# Altium schematic symbol library SCH - MCU - STM32 - ST MICROELECTRONICS STM32G0B0RETX LQFP64.SchLib: 1 symbol
Pins are listed as number, name and electrical type; pins without a type are passive.

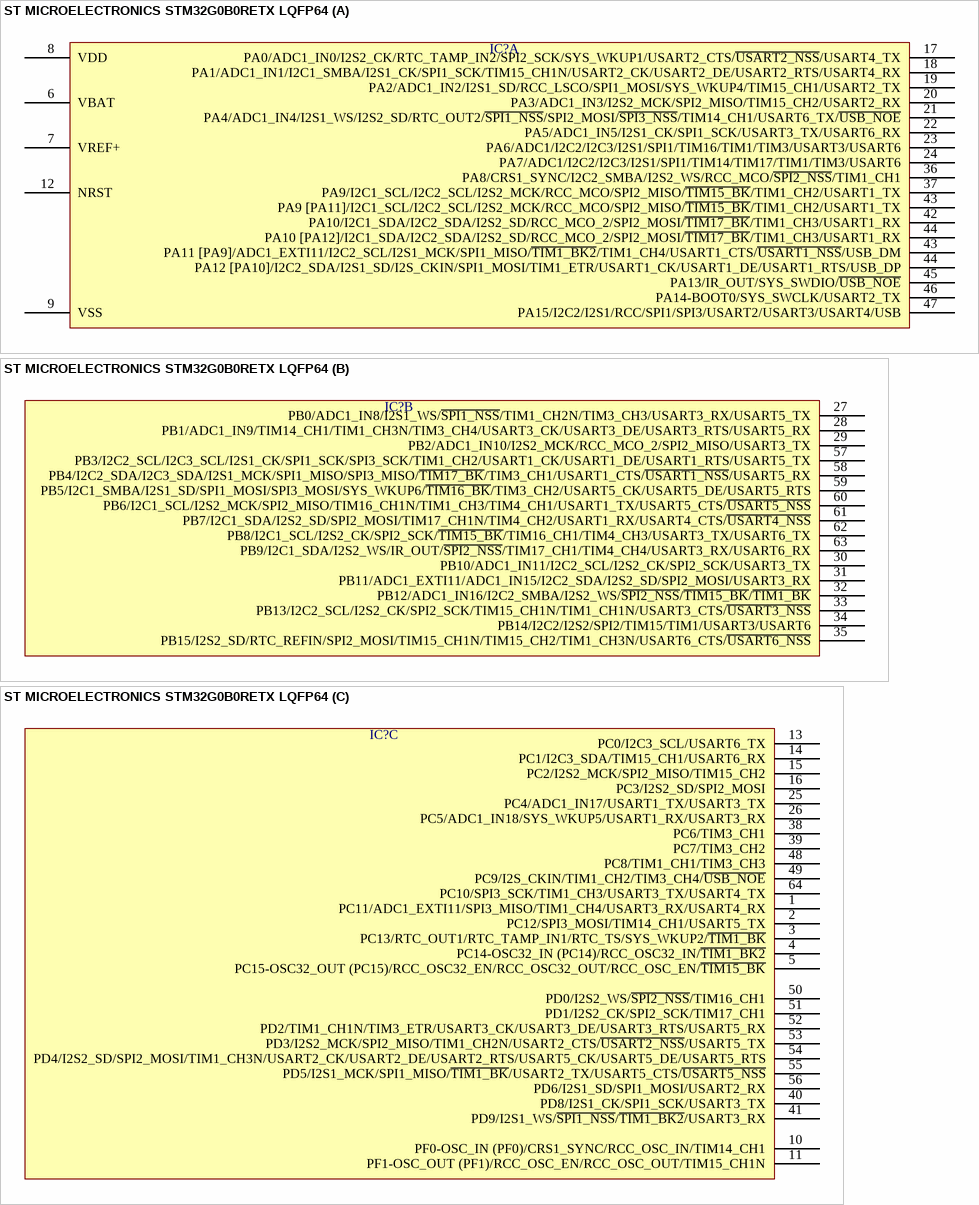
[diagram p0: symbol ST MICROELECTRONICS STM32G0B0RETX LQFP64]

## ST MICROELECTRONICS STM32G0B0RETX LQFP64
designator IC?  (value not drawn)
part A pins: 6 VBAT, 7 VREF+, 8 VDD, 9 VSS, 12 NRST, 17 PA0/ADC1_IN0/I2S2_CK/RTC_TAMP_IN2/SPI2_SCK/SYS_WKUP1/USART2_CTS/~{USART2_NSS}/USART4_TX, 18 PA1/ADC1_IN1/I2C1_SMBA/I2S1_CK/SPI1_SCK/TIM15_CH1N/USART2_CK/USART2_DE/USART2_RTS/USART4_RX, 19 PA2/ADC1_IN2/I2S1_SD/RCC_LSCO/SPI1_MOSI/SYS_WKUP4/TIM15_CH1/USART2_TX, 20 PA3/ADC1_IN3/I2S2_MCK/SPI2_MISO/TIM15_CH2/USART2_RX, 21 PA4/ADC1_IN4/I2S1_WS/I2S2_SD/RTC_OUT2/~{SPI1_NSS}/SPI2_MOSI/~{SPI3_NSS}/TIM14_CH1/USART6_TX/~{USB_NOE}, 22 PA5/ADC1_IN5/I2S1_CK/SPI1_SCK/USART3_TX/USART6_RX, 23 PA6/ADC1/I2C2/I2C3/I2S1/SPI1/TIM16/TIM1/TIM3/USART3/USART6, 24 PA7/ADC1/I2C2/I2C3/I2S1/SPI1/TIM14/TIM17/TIM1/TIM3/USART6, 36 PA8/CRS1_SYNC/I2C2_SMBA/I2S2_WS/RCC_MCO/~{SPI2_NSS}/TIM1_CH1, 37 PA9/I2C1_SCL/I2C2_SCL/I2S2_MCK/RCC_MCO/SPI2_MISO/~{TIM15_BK}/TIM1_CH2/USART1_TX, 42 PA10/I2C1_SDA/I2C2_SDA/I2S2_SD/RCC_MCO_2/SPI2_MOSI/~{TIM17_BK}/TIM1_CH3/USART1_RX, 43 PA9 [PA11]/I2C1_SCL/I2C2_SCL/I2S2_MCK/RCC_MCO/SPI2_MISO/~{TIM15_BK}/TIM1_CH2/USART1_TX, 43 PA11 [PA9]/ADC1_EXTI11/I2C2_SCL/I2S1_MCK/SPI1_MISO/~{TIM1_BK2}/TIM1_CH4/USART1_CTS/~{USART1_NSS}/USB_DM, 44 PA10 [PA12]/I2C1_SDA/I2C2_SDA/I2S2_SD/RCC_MCO_2/SPI2_MOSI/~{TIM17_BK}/TIM1_CH3/USART1_RX, 44 PA12 [PA10]/I2C2_SDA/I2S1_SD/I2S_CKIN/SPI1_MOSI/TIM1_ETR/USART1_CK/USART1_DE/USART1_RTS/USB_DP, 45 PA13/IR_OUT/SYS_SWDIO/~{USB_NOE}, 46 PA14-BOOT0/SYS_SWCLK/USART2_TX, 47 PA15/I2C2/I2S1/RCC/SPI1/SPI3/USART2/USART3/USART4/USB
part B pins: 27 PB0/ADC1_IN8/I2S1_WS/~{SPI1_NSS}/TIM1_CH2N/TIM3_CH3/USART3_RX/USART5_TX, 28 PB1/ADC1_IN9/TIM14_CH1/TIM1_CH3N/TIM3_CH4/USART3_CK/USART3_DE/USART3_RTS/USART5_RX, 29 PB2/ADC1_IN10/I2S2_MCK/RCC_MCO_2/SPI2_MISO/USART3_TX, 30 PB10/ADC1_IN11/I2C2_SCL/I2S2_CK/SPI2_SCK/USART3_TX, 31 PB11/ADC1_EXTI11/ADC1_IN15/I2C2_SDA/I2S2_SD/SPI2_MOSI/USART3_RX, 32 PB12/ADC1_IN16/I2C2_SMBA/I2S2_WS/~{SPI2_NSS}/~{TIM15_BK}/~{TIM1_BK}, 33 PB13/I2C2_SCL/I2S2_CK/SPI2_SCK/TIM15_CH1N/TIM1_CH1N/USART3_CTS/~{USART3_NSS}, 34 PB14/I2C2/I2S2/SPI2/TIM15/TIM1/USART3/USART6, 35 PB15/I2S2_SD/RTC_REFIN/SPI2_MOSI/TIM15_CH1N/TIM15_CH2/TIM1_CH3N/USART6_CTS/~{USART6_NSS}, 57 PB3/I2C2_SCL/I2C3_SCL/I2S1_CK/SPI1_SCK/SPI3_SCK/TIM1_CH2/USART1_CK/USART1_DE/USART1_RTS/USART5_TX, 58 PB4/I2C2_SDA/I2C3_SDA/I2S1_MCK/SPI1_MISO/SPI3_MISO/~{TIM17_BK}/TIM3_CH1/USART1_CTS/~{USART1_NSS}/USART5_RX, 59 PB5/I2C1_SMBA/I2S1_SD/SPI1_MOSI/SPI3_MOSI/SYS_WKUP6/~{TIM16_BK}/TIM3_CH2/USART5_CK/USART5_DE/USART5_RTS, 60 PB6/I2C1_SCL/I2S2_MCK/SPI2_MISO/TIM16_CH1N/TIM1_CH3/TIM4_CH1/USART1_TX/USART5_CTS/~{USART5_NSS}, 61 PB7/I2C1_SDA/I2S2_SD/SPI2_MOSI/TIM17_CH1N/TIM4_CH2/USART1_RX/USART4_CTS/~{USART4_NSS}, 62 PB8/I2C1_SCL/I2S2_CK/SPI2_SCK/~{TIM15_BK}/TIM16_CH1/TIM4_CH3/USART3_TX/USART6_TX, 63 PB9/I2C1_SDA/I2S2_WS/IR_OUT/~{SPI2_NSS}/TIM17_CH1/TIM4_CH4/USART3_RX/USART6_RX
part C pins: 1 PC11/ADC1_EXTI11/SPI3_MISO/TIM1_CH4/USART3_RX/USART4_RX, 2 PC12/SPI3_MOSI/TIM14_CH1/USART5_TX, 3 PC13/RTC_OUT1/RTC_TAMP_IN1/RTC_TS/SYS_WKUP2/~{TIM1_BK}, 4 PC14-OSC32_IN (PC14)/RCC_OSC32_IN/~{TIM1_BK2}, 5 PC15-OSC32_OUT (PC15)/RCC_OSC32_EN/RCC_OSC32_OUT/RCC_OSC_EN/~{TIM15_BK}, 10 PF0-OSC_IN (PF0)/CRS1_SYNC/RCC_OSC_IN/TIM14_CH1, 11 PF1-OSC_OUT (PF1)/RCC_OSC_EN/RCC_OSC_OUT/TIM15_CH1N, 13 PC0/I2C3_SCL/USART6_TX, 14 PC1/I2C3_SDA/TIM15_CH1/USART6_RX, 15 PC2/I2S2_MCK/SPI2_MISO/TIM15_CH2, 16 PC3/I2S2_SD/SPI2_MOSI, 25 PC4/ADC1_IN17/USART1_TX/USART3_TX, 26 PC5/ADC1_IN18/SYS_WKUP5/USART1_RX/USART3_RX, 38 PC6/TIM3_CH1, 39 PC7/TIM3_CH2, 40 PD8/I2S1_CK/SPI1_SCK/USART3_TX, 41 PD9/I2S1_WS/~{SPI1_NSS}/~{TIM1_BK2}/USART3_RX, 48 PC8/TIM1_CH1/TIM3_CH3, 49 PC9/I2S_CKIN/TIM1_CH2/TIM3_CH4/~{USB_NOE}, 50 PD0/I2S2_WS/~{SPI2_NSS}/TIM16_CH1, 51 PD1/I2S2_CK/SPI2_SCK/TIM17_CH1, 52 PD2/TIM1_CH1N/TIM3_ETR/USART3_CK/USART3_DE/USART3_RTS/USART5_RX, 53 PD3/I2S2_MCK/SPI2_MISO/TIM1_CH2N/USART2_CTS/~{USART2_NSS}/USART5_TX, 54 PD4/I2S2_SD/SPI2_MOSI/TIM1_CH3N/USART2_CK/USART2_DE/USART2_RTS/USART5_CK/USART5_DE/USART5_RTS, 55 PD5/I2S1_MCK/SPI1_MISO/~{TIM1_BK}/USART2_TX/USART5_CTS/~{USART5_NSS}, 56 PD6/I2S1_SD/SPI1_MOSI/USART2_RX, 64 PC10/SPI3_SCK/TIM1_CH3/USART3_TX/USART4_TX